# Altium integrated library PowerSwitch.IntLib: 1 symbol
Pins are listed as number, name and electrical type; pins without a type are passive.

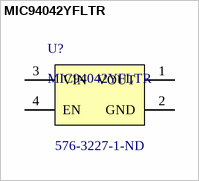
[diagram p0: symbol MIC94042YFLTR]

## MIC94042YFLTR
designator U?  Supplier Part Number 1: 576-3227-1-ND
Power Switch Hi Side 3A 4-Pin DFN T/R; Manufacturer: Microchip; Number of Outputs: 1; Interface: On/Off; Voltage: 5.5V; On-State Resistance: 28mR; Output Configuration: High Side; On-state Resistance-Max: 55MR; Supplier 1: Digi-Key; Manufacturer Part Number: MIC94042YFLTR; RoHS: Yes; Category: Hot Swap Controllers; Stock 1: 28575; Pricing 1: 1=0,82000, 25=0,68920, 100=0,64500 (USD); Mount: Surface Mount; Case/Package: DFN; Number of Pins: 4; Min Operating Temperature: -40°C; Max Operating Temperature: 125°C; Output Current: 3A; Nominal Supply Current: 3A; Packaging: Tape and Reel; Package Quantity: 5000; Current Rating: 3A; Max Output Current: 3A; Current: 3A; Series: -; Supply Current: 3A; Rated Current-Max: 3A; Length: 1.2mm; Width: 1.2mm; Height: 0.7mm; REACH SVHC: No SVHC; Lead Free: Lead Free; RoHS Compliant: Yes; ComponentLink1URL: https://datasheet.ciiva.com/46430/1670802-46430492.pdf?src-supplier=Element14; ComponentLink1Description: https://datasheet.ciiva.com/46430/1670802-46430492.pdf?src-supplier=Element14; ComponentLink2URL: https://datasheet.ciiva.com/1956/mic9404x-1956233.pdf?src-supplier=Digi-Key; ComponentLink2Description: https://datasheet.ciiva.com/1956/mic9404x-1956233.pdf?src-supplier=Digi-Key; ComponentLink3URL: https://datasheet.ciiva.com/1956/mic9404x-1956232.pdf?src-supplier=Digi-Key; ComponentLink3Description: https://datasheet.ciiva.com/1956/mic9404x-1956232.pdf?src-supplier=Digi-Key; ComponentLink4URL: https://datasheet.ciiva.com/1956/mic9404x-1956234.pdf?src-supplier=Digi-Key; ComponentLink4Description: https://datasheet.ciiva.com/1956/mic9404x-1956234.pdf?src-supplier=Digi-Key
footprint FDFN12X12X80-4L
pins: 1 VOUT, 2 GND, 3 VIN, 4 EN